# Altium schematic symbol library Sierra.SCHLIB: 4 symbols
Pins are listed as number, name and electrical type; pins without a type are passive.

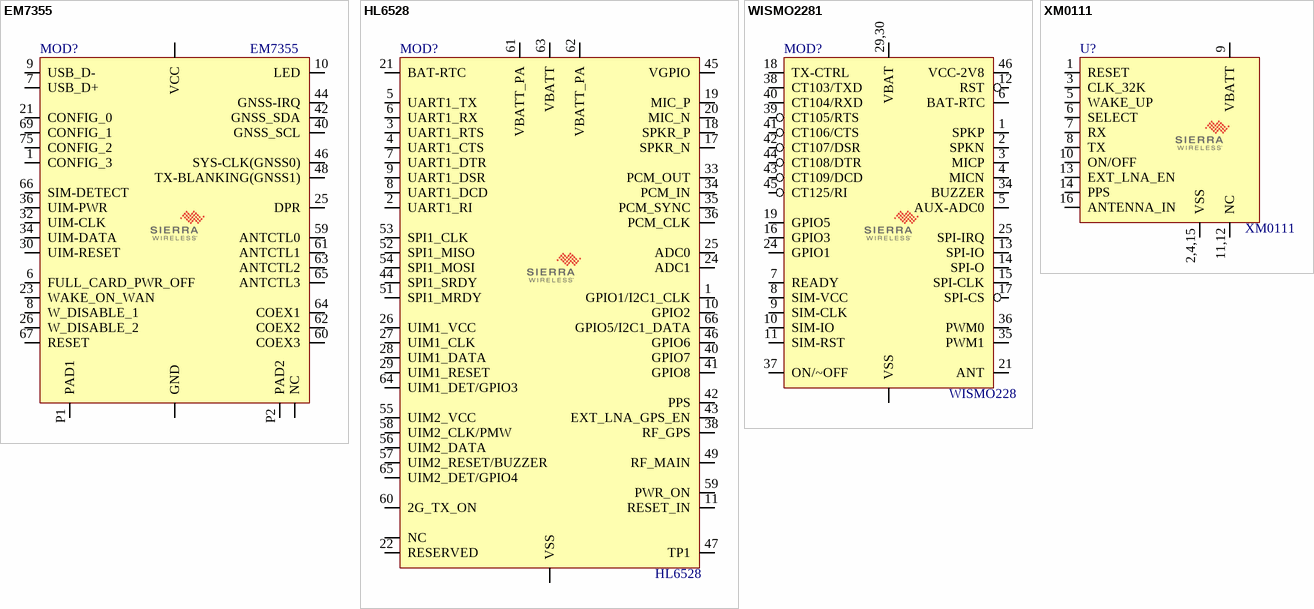
[diagram p0: symbols EM7355 to XM0111]

## EM7355
designator MOD?
LTE/EVDO/HSPA+ 42Mbps NGFF Card 4G Module; Manuf1: Sierra Wireless; SocketManuf: TE Connectivity AMP Connectors; SocketPartnumber: 2199119-3; SocketSource1Partnumber: A115899DKR-ND; SocketSource2Partnumber: 571-2199119-3; Populated: Yes; ReferencePackage: MiniCard-EM7355; SocketSource1: Digikey; SocketSource2: Mouser; Value: EM7355; ROHS: Yes; Manuf1Partnumber: EM7355; LifeCycle: Checked; Supplier 1 Part Number: EM7355; Supplier 1: Sierra Wireless
footprint EM7355
pins: 1 CONFIG_3, 2,4,70,72,74 VCC, 3,5,11,27,33,39,45,51,57,71,73 GND, 6 FULL_CARD_PWR_OFF, 7 USB_D+, 8 W_DISABLE_1, 9 USB_D-, 10 LED, 20,22,24,28,29,31,35,37,38,41,43,47,49,50,52,53,54,55,56,58,68 NC, 21 CONFIG_0, 23 WAKE_ON_WAN, 25 DPR, 26 W_DISABLE_2, 30 UIM-RESET, 32 UIM-CLK, 34 UIM-DATA, 36 UIM-PWR, 40 GNSS_SCL, 42 GNSS_SDA, 44 GNSS-IRQ, 46 SYS-CLK(GNSS0), 48 TX-BLANKING(GNSS1), 59 ANTCTL0, 60 COEX3, 61 ANTCTL1, 62 COEX2, 63 ANTCTL2, 64 COEX1, 65 ANTCTL3, 66 SIM-DETECT, 67 RESET, 69 CONFIG_1, 75 CONFIG_2, P1 PAD1, P2 PAD2

## HL6528
designator MOD?
The AirPrime HL6528 and HL6528-G Embedded Modules; Manuf1: Sierra Wireless; Populated: Yes; ClassName: *; Value: HL6528; ROHS: Yes; LifeCycle: Checked; Code_JEDEC: *; HelpURL: *; PackageReference: HL6528; Manuf1Partnumber: *; Supplier 1: Sierra Wireless; Supplier 1 Part Number: *
footprint HL6528
pins: 1 GPIO1/I2C1_CLK, 2 UART1_RI, 3 UART1_RTS, 4 UART1_CTS, 5 UART1_TX, 6 UART1_RX, 7 UART1_DTR, 8 UART1_DCD, 9 UART1_DSR, 10 GPIO2, 11 RESET_IN, 12, 13, 14, 15, 16, 23, 30, 31, 32 NC, 17 SPKR_N, 18 SPKR_P, 19 MIC_P, 20 MIC_N, 21 BAT-RTC, 22 RESERVED, 24 ADC1, 25 ADC0, 26 UIM1_VCC, 27 UIM1_CLK, 28 UIM1_DATA, 29 UIM1_RESET, 33 PCM_OUT, 34 PCM_IN, 35 PCM_SYNC, 36 PCM_CLK, 37,39,48,50,67,69,70,167,168,169,170,171,172,173,174,175,176,177,178,179,180,181,182,183,184,185,186,187,188,189,190,191,192,193,194,195,196,197,198,199,200,201,202,203,204,205,206,207,208,209,210,211,212,213,214,215,216,217,218,219,220,221,222,223,224,225,226,227,228,229,230,231,232,233,234 VSS (power), 38 RF_GPS, 40 GPIO7, 41 GPIO8, 42 PPS, 43 EXT_LNA_GPS_EN, 44 SPI1_SRDY, 45 VGPIO, 46 GPIO6, 47 TP1, 49 RF_MAIN, 51 SPI1_MRDY, 52 SPI1_MISO, 53 SPI1_CLK, 54 SPI1_MOSI, 55 UIM2_VCC, 56 UIM2_DATA, 57 UIM2_RESET/BUZZER, 58 UIM2_CLK/PMW, 59 PWR_ON, 60 2G_TX_ON, 61 VBATT_PA, 62 VBATT_PA, 63 VBATT, 64 UIM1_DET/GPIO3, 65 UIM2_DET/GPIO4, 66 GPIO5/I2C1_DATA

## WISMO2281
designator MOD?, comment WISMO228
GSM & GPRS Module; Manuf1: Sierra Wireless; Populated: Yes; Value: WISMO228; ROHS: Yes; Supplier 1: Sierra Wireless; Supplier 1 Part Number: WISMO228; LifeCycle: Checked; PackageReference: WISMO228; Manuf1Partnumber: WISMO228
footprint WISMO228
pins: 1 SPKP, 2 SPKN, 3 MICP, 4 MICN, 5 AUX-ADC0, 6 BAT-RTC, 7 READY, 8 SIM-VCC, 9 SIM-CLK, 10 SIM-IO, 11 SIM-RST, 12 RST, 13 SPI-IO, 14 SPI-O, 15 SPI-CLK, 16 GPIO3, 17 SPI-CS, 18 TX-CTRL, 19 GPIO5, 20,22,23,28,31,26 VSS (power), 21 ANT, 24 GPIO1, 25 SPI-IRQ, 29,30 VBAT, 34 BUZZER, 35 PWM1, 36 PWM0, 37 ON/~OFF, 38 CT103/TXD, 39 CT105/RTS, 40 CT104/RXD, 41 CT106/CTS, 42 CT107/DSR, 43 CT109/DCD, 44 CT108/DTR, 45 CT125/RI, 46 VCC-2V8

## XM0111
designator U?
GPS Module with integrated SiRFstarIV™ GPS technology from CSR plc; Manuf1: Sierra Wireless; Populated: Yes; Value: XM0111; Manuf1Partnumber: XM0111; LifeCycle: Checked; ROHS: Yes; Supplier 1: Sierra Wireless; Supplier 1 Part Number: XM0111; PackageReference: XM0111
footprint XM0110
pins: 1 RESET, 2,4,15 VSS (power), 3 CLK_32K, 5 WAKE_UP, 6 SELECT, 7 RX, 8 TX, 9 VBATT (power), 10 ON/OFF, 11,12 NC, 13 EXT_LNA_EN, 14 PPS, 16 ANTENNA_IN